# Altium footprint library MCH28XX.PcbLib: 1 footprints
Each footprint in its own frame and in the unit in brackets; x right, y up, seen from the top. Pads: shape width x height; smd on the part's side, far side on the other; paste and mask are expansions set on the pad; w line width, h text height; cw(c..) or ccw(c..) is an arc to the next point about the centre after c.
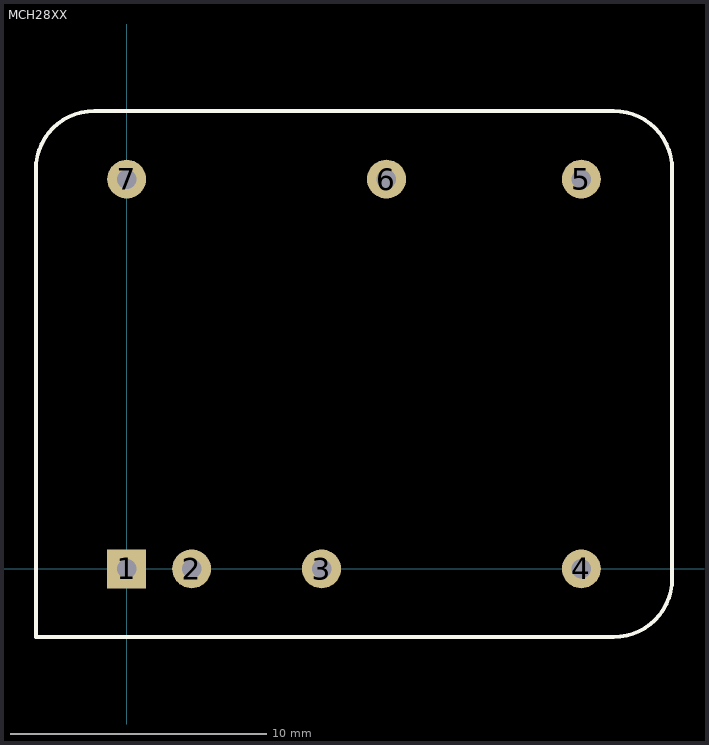
[diagram p0: the footprint, top view; thin cyan lines are the x and y axes]

## MCH28XX [mil]
pads (7):
  rect 60x60 hole 30: 1(0,0)
  round 60 hole 30: 2(100,0) 3(300,0) 4(700,0) 5(700,600) 6(400,600) 7(0,600)
TopOverlay:
  lines w6: -140,-105 750,-105 ccw(c750,-15) 840,-15 840,615 ccw(c750,615) 750,705 -50,705 ccw(c-50,615) -140,615 -140,-105